# EAGLE library part 6873XX124422_687308124422 (library WR-FPC)
WR-FPC 0.50 mm SMT ZIF Vertical KIND PROPERTIES Pitch 0.5 mm MATERIAL PROPERTIES Insulator Material LCP Contact Material Phosphor Bronze Contact Plating 100 (µ") Tin over 50 (µ") Nickel Contact Type Stamped Solder Tabs Brass <https://www.we-online.com/catalog/media/o32874v209%20Family_WE-FPC_6873xx124422.jpg> Details see: https://www.we-online.com/catalog/en/FPC_0_5_SMT_ZIF_VERTICAL_6873XX124422/ Updated by Ella Wu 2020-08-26 2020(C) Wurth Elektronik
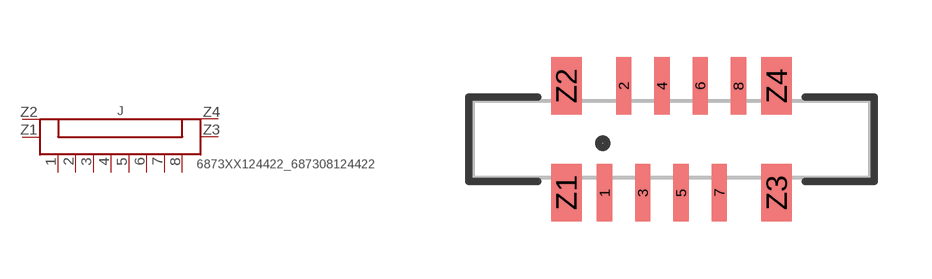
[diagram p220: symbol with the pads of 687308124422; footprint 687308124422]

Designator prefix J

## 6873XX124422_687308124422 (CONTACT-RESISTANCE: 20Ohm; DATASHEET-URL: https://www.we-online.com/catalog/datasheet/687308124422.pdf; IR: 0.5A; L: 10.4mm; PACKAGING: Tape and Reel with Cap; PART-NUMBER: 687308124422; PINS: 8; PITCH: 0.5mm; TYPE: Vertical; VALUE: 687308124422; WORKING-VOLTAGE: 50V(AC))  [687308124422]
1  1  pas
2  2  pas
3  3  pas
4  4  pas
5  5  pas
6  6  pas
7  7  pas
8  8  pas
Z1  Z1  pas
Z2  Z2  pas
Z3  Z3  pas
Z4  Z4  pas

## Footprint 687308124422 (pad centres in mm)
WR-FPC 0.50 mm SMT ZIF Vertical,pins 8
smd 0.4 x 1.5: 1 -1.75,-1.4; 2 -1.25,1.4; 3 -0.75,-1.4; 4 -0.25,1.4; 5 0.25,-1.4; 6 0.75,1.4; 7 1.25,-1.4; 8 1.75,1.4
smd 0.8 x 1.5: Z1 -2.75,-1.4; Z2 -2.75,1.4; Z3 2.75,-1.4; Z4 2.75,1.4